# Altium schematic symbol library AZ23C5V6-7-F.SchLib: 1 symbol
Pins are listed as number, name and electrical type; pins without a type are passive.

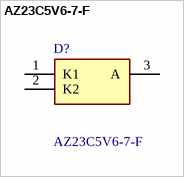
[diagram p0: symbol AZ23C5V6-7-F]

## AZ23C5V6-7-F
designator D?
Diode Zener 5.6V 5% 300mW SOT23 Diodes Inc AZ23C5V6-7-F Dual Zener Diode, Common Anode, 5.6V 5% 0.3 W SMT 3-Pin SOT-23; Manufacturer_Name: Diodes Incorporated; Geometry.Height: 1.15mm; Manufacturer_Part_Number: AZ23C5V6-7-F; Mouser Part Number: 621-AZ23C5V6-F; Mouser Price/Stock: https://www.mouser.co.uk/ProductDetail/Diodes-Incorporated/AZ23C5V6-7-F?qs=xQ7EkeYTsWGNI9v36qvVFw%3D%3D; Arrow Part Number: AZ23C5V6-7-F; Arrow Price/Stock: https://www.arrow.com/en/products/az23c5v6-7-f/diodes-incorporated?utm_currency=USD&region=nac; Datasheet Link: https://www.diodes.com//assets/Datasheets/AZ23C2V7-AZ23C51.pdf
footprint SOT96P240X115-3N
pins: 1 K1, 2 K2, 3 A